# EAGLE library part CAT5114VI-00 (library lib_paul)
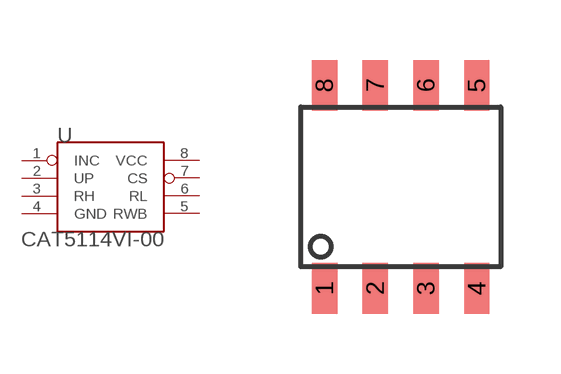
[diagram p19: symbol with the pads of SOIC8; footprint SOIC8]

Designator prefix -

## CAT5114VI-00  [SOIC8]
1  INC
2  UP
3  RH
4  GND
5  RWB
6  RL
7  CS
8  VCC

## Footprint SOIC8 (pad centres in mm)
smd 0.635 x 1.27: 1 -1.905,-2.54; 2 -0.635,-2.54; 3 0.635,-2.54; 4 1.905,-2.54; 5 1.905,2.54; 6 0.635,2.54; 7 -0.635,2.54; 8 -1.905,2.54